# Altium integrated library 3296W-1-303LF.IntLib: 1 symbol
Pins are listed as number, name and electrical type; pins without a type are passive.

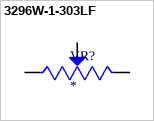
[diagram p0: symbol 3296W-1-303LF]

## 3296W-1-303LF
designator VR?
3296W top adj cermet PCB trimmer 30K 10%,Pwr-Rtg 0.5W,25 Turns | Bourns 3296W-1-303LF; SnapEDA_Link: https://www.snapeda.com/parts/3296W-1-303LF/Bourns/view-part/?ref=snap; Package: NON STANDARD-3 Bourns; Value: *; MF: Bourns; MP: 3296W-1-303LF; Check_prices: https://www.snapeda.com/parts/3296W-1-303LF/Bourns/view-part/?ref=eda
footprint TRIM_3296W-1-303LF
pins: 1 CCW, 2 WIPER, 3 CW